# EAGLE library part IRS2186 (library ruark2)
Half-Bridge Gate Driver IC Non-Inverting 8-SOIC
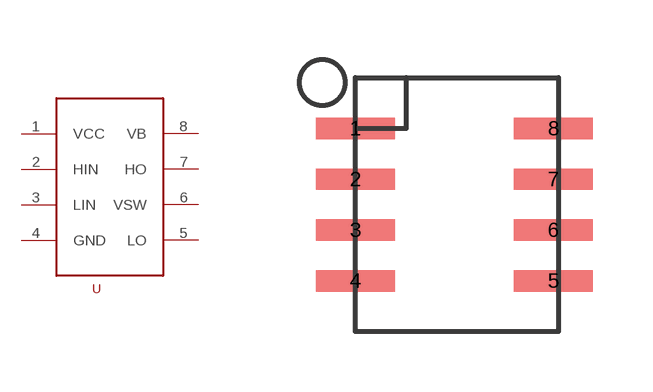
[diagram p12: symbol with the pads of SOIC8; footprint SOIC8]

Designator prefix U

## IRS2186 (PARTNO: IRS2186SPBF-ND)  [SOIC8]
1  VCC
2  HIN
3  LIN
4  GND
5  LO
6  VSW
7  HO
8  VB

## Footprint SOIC8 (pad centres in mm)
smd 1.981 x 0.533: 1 -2.477,1.905; 2 -2.477,0.635; 3 -2.477,-0.635; 4 -2.477,-1.905; 5 2.477,-1.905; 6 2.477,-0.635; 7 2.477,0.635; 8 2.477,1.905